# EAGLE library part TCA9554DBQR (library TCA9554DBQR)
Remote 8-Bit I2C and SMBus I/O Expander Source: Datasheet <http://www.ti.com/lit/gpn/tca9554>
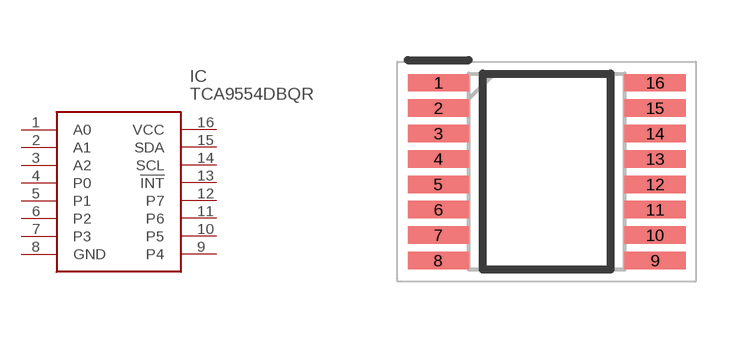
[diagram p0: symbol with the pads of SOP64P600X175-16N; footprint SOP64P600X175-16N]

Designator prefix IC

## TCA9554DBQR (Description: Remote 8-Bit I2C and SMBus I/O Expander; Height: 1.75mm; Manufacturer_Name: Texas Instruments; Manufacturer_Part_Number: TCA9554DBQR; Mouser_Part_Number: 595-TCA9554DBQR; Mouser_Price-Stock: https://www.mouser.co.uk/ProductDetail/Texas-Instruments/TCA9554DBQR?qs=MiqG6Kq1qKNgK3BiZWWJgA%3D%3D)  [SOP64P600X175-16N]
1  A0
2  A1
3  A2
4  P0
5  P1
6  P2
7  P3
8  GND
9  P4
10  P5
11  P6
12  P7
13  !INT
14  SCL
15  SDA
16  VCC

## Footprint SOP64P600X175-16N (pad centres in mm)
DBQ0016A
smd 1.528 x 0.435: 1 -2.711,2.222; 2 -2.711,1.588; 3 -2.711,0.952; 4 -2.711,0.318; 5 -2.711,-0.318; 6 -2.711,-0.952; 7 -2.711,-1.588; 8 -2.711,-2.222; 9 2.711,-2.222; 10 2.711,-1.588; 11 2.711,-0.952; 12 2.711,-0.318; 13 2.711,0.318; 14 2.711,0.952; 15 2.711,1.588; 16 2.711,2.222